# EAGLE library part 79107-26 (library untitled)
RECEPTACAL
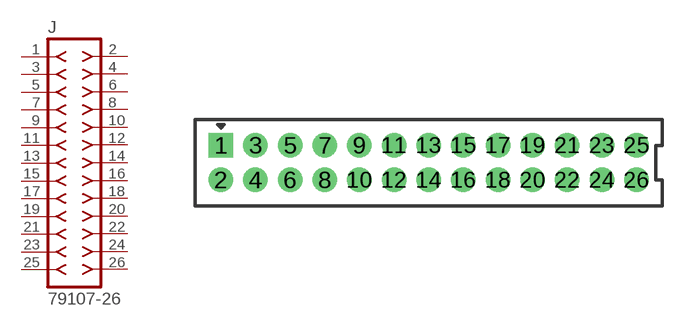
[diagram p147: symbol with the pads of 79107-26; footprint 79107-26]

Designator prefix J

## 79107-26  [79107-26]
1  1  pas
2  2  pas
3  3  pas
4  4  pas
5  5  pas
6  6  pas
7  7  pas
8  8  pas
9  9  pas
10  10  pas
11  11  pas
12  12  pas
13  13  pas
14  14  pas
15  15  pas
16  16  pas
17  17  pas
18  18  pas
19  19  pas
20  20  pas
21  21  pas
22  22  pas
23  23  pas
24  24  pas
25  25  pas
26  26  pas

## Footprint 79107-26 (pad centres in mm)
RECEPTACAL Dual Row, Vertical, Through-Hole
drill 0.914 square: 1 -12,1
drill 0.914 round: 2 -12,-1; 3 -10,1; 4 -10,-1; 5 -8,1; 6 -8,-1; 7 -6,1; 8 -6,-1; 9 -4,1; 10 -4,-1; 11 -2,1; 12 -2,-1; 13 0,1; 14 0,-1; 15 2,1; 16 2,-1; 17 4,1; 18 4,-1; 19 6,1; 20 6,-1; 21 8,1; 22 8,-1; 23 10,1; 24 10,-1; 25 12,1; 26 12,-1